# Altium footprint library PCB1.PcbLib: 74 footprints (part 5 of 5)
Each footprint in its own frame and in the unit in brackets; x right, y up, seen from the top. Pads: shape width x height; smd on the part's side, far side on the other; paste and mask are expansions set on the pad; w line width, h text height; cw(c..) or ccw(c..) is an arc to the next point about the centre after c.
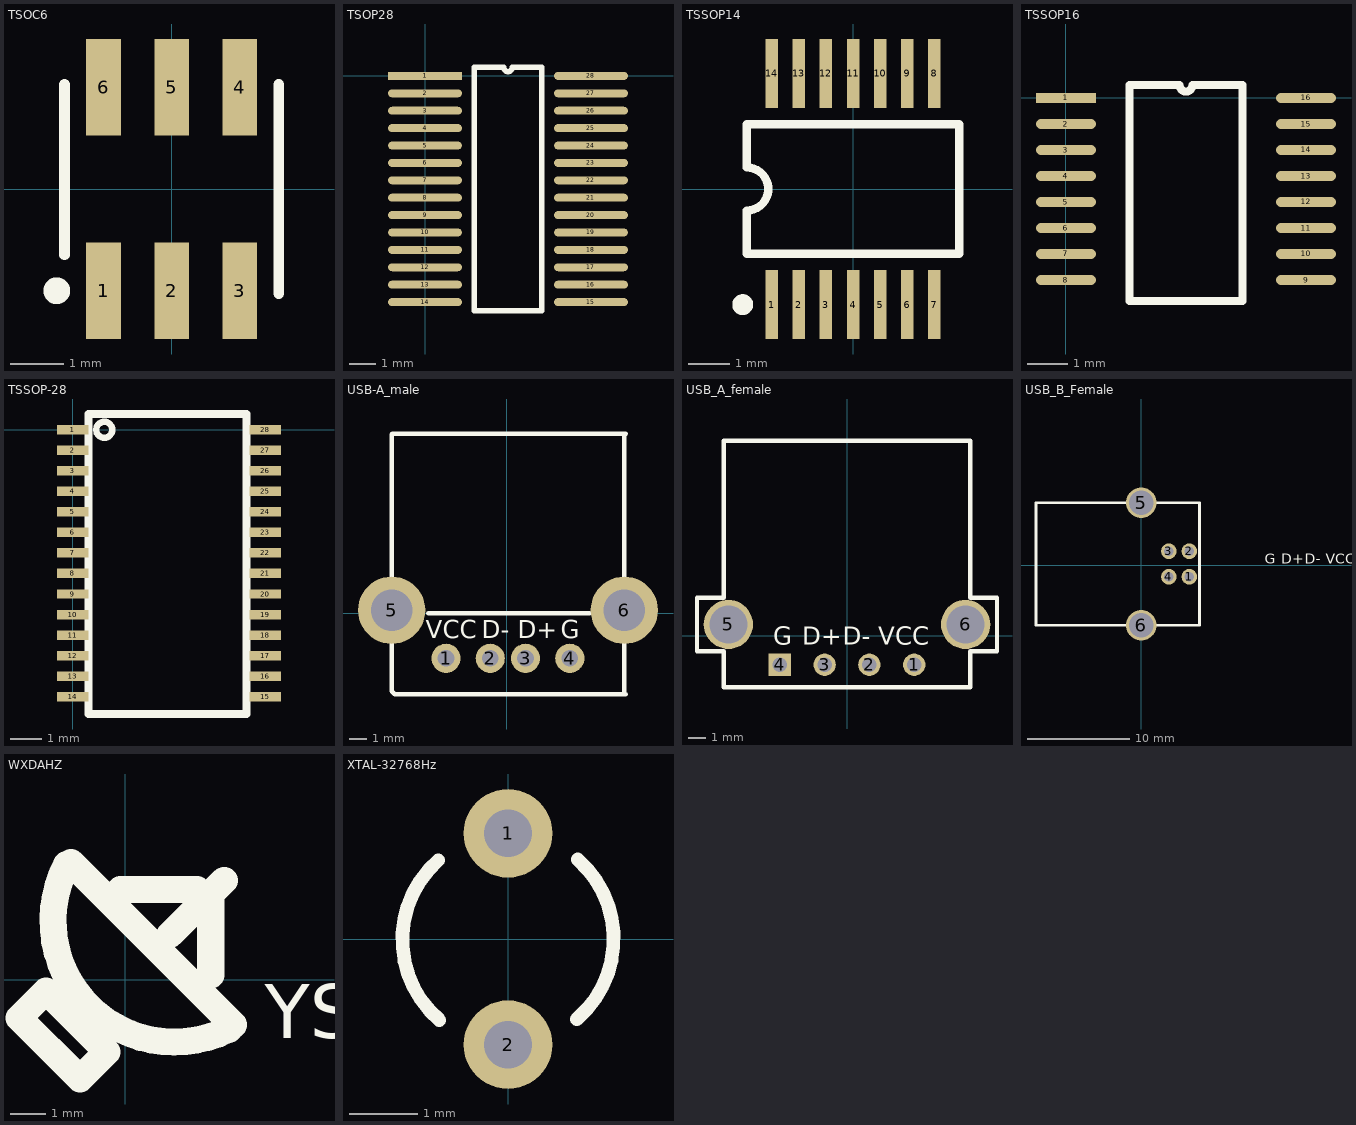
[diagram p4: the footprints below, top view; thin cyan lines are the x and y axes]

## TSOC6 [mm] "Small Outline; 6 C-Bend Leads; Body Width 3.8 mm; Pitch 1.27 mm"
height 1.5
pads (6):
  rect 0.65x1.8 smd: 1(-1.27,-1.9) 2(0,-1.9) 3(1.27,-1.9) 4(1.27,1.9) 5(0,1.9) 6(-1.27,1.9)
Top Overlay:
  circle w0.25: c-2.145,-1.9 r0.125
  lines w0.2: -2,-1.23 -2,1.95 ; 2,-1.95 2,1.95

## TSOP28 [mm]
pads (28):
  rect 2.762x0.3 smd: 1(0,0)
  oval 2.762x0.3 smd: 2(0,-0.65) 3(0,-1.3) 4(0,-1.95) 5(0,-2.6) 6(0,-3.25) 7(0,-3.9) 8(0,-4.55) 9(0,-5.2) 10(0,-5.85) 11(0,-6.5) 12(0,-7.15) 13(0,-7.8) 14(0,-8.45) 15(6.2,-8.45) 16(6.2,-7.8) 17(6.2,-7.15) 18(6.2,-6.5) 19(6.2,-5.85) 20(6.2,-5.2) 21(6.2,-4.55) 22(6.2,-3.9) 23(6.2,-3.25) 24(6.2,-2.6) 25(6.2,-1.95) 26(6.2,-1.3) 27(6.2,-0.65) 28(6.2,0)
Top Overlay:
  lines w0.2: 1.835,-8.775 1.835,0.325 2.937,0.325 ccw(c3.1,0.325) 3.262,0.325 4.365,0.325 4.365,-8.775 1.835,-8.775

## TSSOP14 [mm] "Shrink Small Outline; 14 Leads; Body Width 4.4 mm; Pitch 0.65 mm"
height 1.1
pads (14):
  rect 0.3x1.65 smd: 1(-1.95,-2.775) 2(-1.3,-2.775) 3(-0.65,-2.775) 4(0,-2.775) 5(0.65,-2.775) 6(1.3,-2.775) 7(1.95,-2.775) 8(1.95,2.775) 9(1.3,2.775) 10(0.65,2.775) 11(0,2.775) 12(-0.65,2.775) 13(-1.3,2.775) 14(-1.95,2.775)
Top Overlay:
  circle w0.25: c-2.65,-2.775 r0.125
  lines w0.2: -2.55,-1.55 2.55,-1.55 2.55,1.55 -2.55,1.55 -2.55,0.517 cw(c-2.55,0) -2.55,-0.517 -2.55,-1.55

## TSSOP16 [mm]
pads (16):
  rect 1.5x0.25 smd: 1(0,0)
  oval 1.5x0.25 smd: 2(0,-0.65) 3(0,-1.3) 4(0,-1.95) 5(0,-2.6) 6(0,-3.25) 7(0,-3.9) 8(0,-4.55) 9(6,-4.55) 10(6,-3.9) 11(6,-3.25) 12(6,-2.6) 13(6,-1.95) 14(6,-1.3) 15(6,-0.65) 16(6,0)
Top Overlay:
  lines w0.2: 1.585,-5.08 1.585,0.325 2.838,0.325 ccw(c3,0.325) 3.162,0.325 4.415,0.325 4.415,-5.08 1.585,-5.08

## TSSOP-28 [mm]
height 1.2
pads (28):
  rect 1x0.3 smd: 1(0,0) 2(0,-0.65) 3(0,-1.3) 4(0,-1.95) 5(0,-2.6) 6(0,-3.25) 7(0,-3.9) 8(0,-4.55) 9(0,-5.2) 10(0,-5.85) 11(0,-6.5) 12(0,-7.15) 13(0,-7.8) 14(0,-8.45) 15(6.1,-8.45) 16(6.1,-7.8) 17(6.1,-7.15) 18(6.1,-6.5) 19(6.1,-5.85) 20(6.1,-5.2) 21(6.1,-4.55) 22(6.1,-3.9) 23(6.1,-3.25) 24(6.1,-2.6) 25(6.1,-1.95) 26(6.1,-1.3) 27(6.1,-0.65) 28(6.1,0)
Top Overlay:
  circle w0.203: c1,0 r0.254
  lines w0.254: 0.5,-9 0.5,0.5 5.5,0.5 5.5,-9 0.5,-9

## USB-A_male [mil]
pads (6):
  round 65 hole 37: 1(-135,-100) 2(-36.5,-100) 3(42,-100) 4(140.6,-100)
  round 150 hole 93: 5(-256,7) 6(262,7)
Top Overlay:
  lines w10: -175,0 185,0 ; 262,-177 262,7 262,377 262,397 265,400 -255,400 -256,399 -256,7 -256,-173 -249,-180 265,-180
  text "D-" at -55,-55 h40
  text "VCC" at -180,-55 h40
  text "D+" at 25,-55 h40
  text "G" at 120,-55 h40

## USB_A_female [mil]
height 68.9
pads (6):
  round 50 hole 32: 1(150,-65) 2(50,-65) 3(-50,-65)
  rect 50x50 hole 32: 4(-150,-65)
  round 110 hole 85: 5(-265,25) 6(265,25)
Top Overlay:
  lines w10: -335,-35 -275,-35 -275,-115 275,-115 275,-35 335,-35 335,85 275,85 275,435 -275,435 -275,85 -335,85 -335,-35
  text "G" at -165,-20 h40
  text "D+" at -100,-20 h40
  text "VCC" at 70,-20 h40
  text "D-" at -10,-20 h40

## USB_B_Female [mil]
pads (6):
  round 60 hole 36.22: 1(185,-45) 2(185,53.42) 3(106.26,53.42) 4(106.26,-45)
  round 118.11 hole 94.49: 5(-0.04,240.43) 6(-0.04,-232.01)
Top Overlay:
  lines w10: -405.55,-232.01 -405.55,240.43 224.37,240.43 224.37,-232.01 -405.55,-232.01
  text "D-" at 630,5 h40
  text "VCC" at 710,5 h40
  text "D+" at 540,5 h40
  text "G" at 475,5 h40

## WXDAHZ [mm]
Top Overlay:
  lines w0.762: -1.64,3.243 ccw(c1.392,1.662) 2.921,-1.397 ; -1.524,3.302 3.048,-1.27 ; -0.127,2.54 2.032,2.54 ; 1.27,1.27 2.794,2.794 ; 2.413,0.127 2.413,2.286 ; -2.984,-1.079 -1.27,-2.794 -0.508,-2.032 -2.222,-0.318 -2.984,-1.079
  text "YSUWUXIE" at 3.937,-1.651 h1.52

## XTAL-32768Hz [mm]
height 2.13
pads (2):
  round 1.3 hole 0.7: 1(0,1.55) 2(0,-1.55)
Top Overlay:
  lines w0.2: -1.022,1.155 ccw(c0,-0.01) -1.006,-1.189 ; 1.006,-1.179 ccw(c0,0) 1.022,1.165